# Altium footprint library 691 311 700 1xx.PcbLib: 6 footprints
Each footprint in its own frame and in the unit in brackets; x right, y up, seen from the top. Pads: shape width x height; smd on the part's side, far side on the other; paste and mask are expansions set on the pad; w line width, h text height; cw(c..) or ccw(c..) is an arc to the next point about the centre after c.
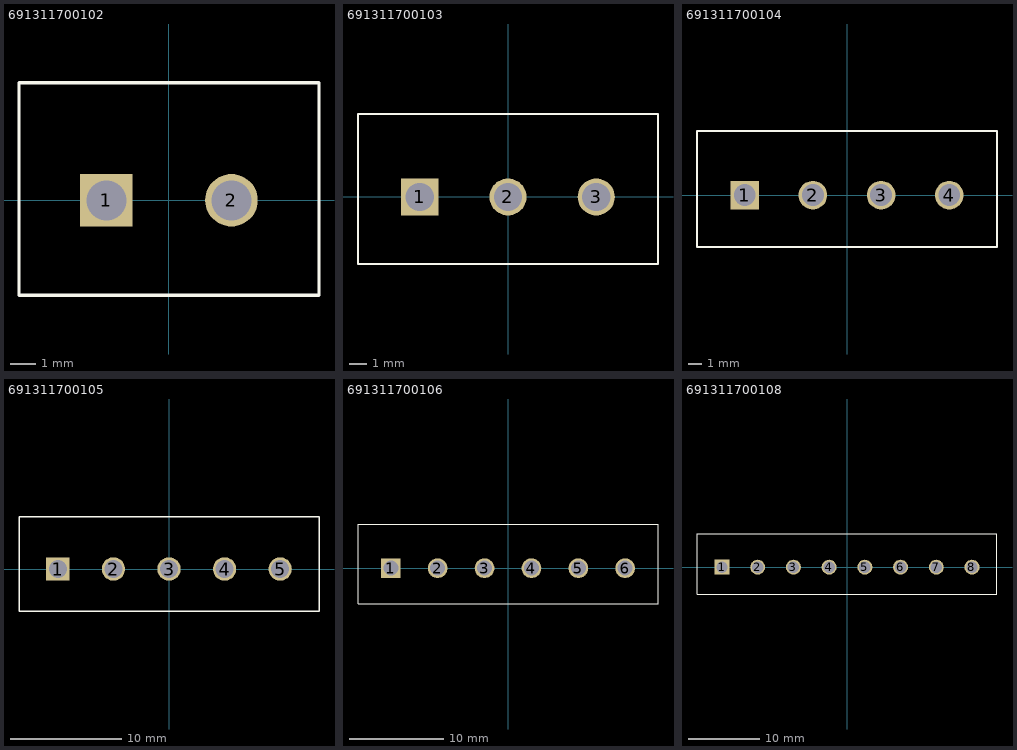
[diagram p0: the footprints below, top view; thin cyan lines are the x and y axes]

## 691311700102 [mm] "5.00mm - PCB Vertical Closed - 02p"
height 12
pads (2):
  rect 2.1x2.1 hole 1.6: 1(-2.5,0)
  round 2.1 hole 1.6: 2(2.5,0)
Top Overlay:
  lines w0.127: -6,-3.8 -6,4.7 6,4.7 6,-3.8 -6,-3.8
3D body: height 12.01, standoff -3.99, extent -6,-3.8 6,4.7

## 691311700103 [mm] "5.00mm - PCB Vertical Closed - 03p"
height 12
pads (3):
  rect 2.1x2.1 hole 1.6: 1(-5,0)
  round 2.1 hole 1.6: 2(0,0) 3(5,0)
Top Overlay:
  lines w0.127: -8.5,-3.8 8.5,-3.8 8.5,4.7 -8.5,4.7 -8.5,-3.8
3D body: height 12.01, standoff -3.99, extent -8.5,-3.8 8.5,4.7

## 691311700104 [mm] "5.00mm - PCB Vertical Closed - 04p"
height 12
pads (4):
  rect 2.1x2.1 hole 1.6: 1(-7.5,0)
  round 2.1 hole 1.6: 2(-2.5,0) 3(2.5,0) 4(7.5,0)
Top Overlay:
  lines w0.127: -11,-3.8 11,-3.8 11,4.7 -11,4.7 -11,-3.8
3D body: height 12.01, standoff -3.99, extent -11,-3.8 11,4.7

## 691311700105 [mm] "5.00mm - PCB Vertical Closed - 05p"
height 12
pads (5):
  rect 2.1x2.1 hole 1.6: 1(-10,0)
  round 2.1 hole 1.6: 2(-5,0) 3(0,0) 4(5,0) 5(10,0)
Top Overlay:
  lines w0.127: -13.5,-3.8 13.5,-3.8 13.5,4.7 -13.5,4.7 -13.5,-3.8
3D body: height 12.01, standoff -3.99, extent -13.5,-3.8 13.5,4.7

## 691311700106 [mm] "5.00mm - PCB Vertical Closed - 06p"
height 12
pads (6):
  rect 2.1x2.1 hole 1.6: 1(-12.5,0)
  round 2.1 hole 1.6: 2(-7.5,0) 3(-2.5,0) 4(2.5,0) 5(7.5,0) 6(12.5,0)
Top Overlay:
  lines w0.127: -16,-3.8 16,-3.8 16,4.7 -16,4.7 -16,-3.8
3D body: height 12.01, standoff -3.99, extent -16,-3.8 16,4.7

## 691311700108 [mm] "5.00mm - PCB Vertical Closed - 08p"
height 12
pads (8):
  rect 2.1x2.1 hole 1.6: 1(-17.5,0)
  round 2.1 hole 1.6: 2(-12.5,0) 3(-7.5,0) 4(-2.5,0) 5(2.5,0) 6(7.5,0) 7(12.5,0) 8(17.5,0)
Top Overlay:
  lines w0.127: -21,-3.8 -21,4.7 21,4.7 21,-3.8 -21,-3.8
3D body: height 12.01, standoff -3.99, extent -21,-3.8 21,4.7